# Altium footprint library FootPrintLib_6.PcbLib: 588 footprints (part 32 of 37)
Each footprint in its own frame and in the unit in brackets; x right, y up, seen from the top. Pads: shape width x height; smd on the part's side, far side on the other; paste and mask are expansions set on the pad; w line width, h text height; cw(c..) or ccw(c..) is an arc to the next point about the centre after c.
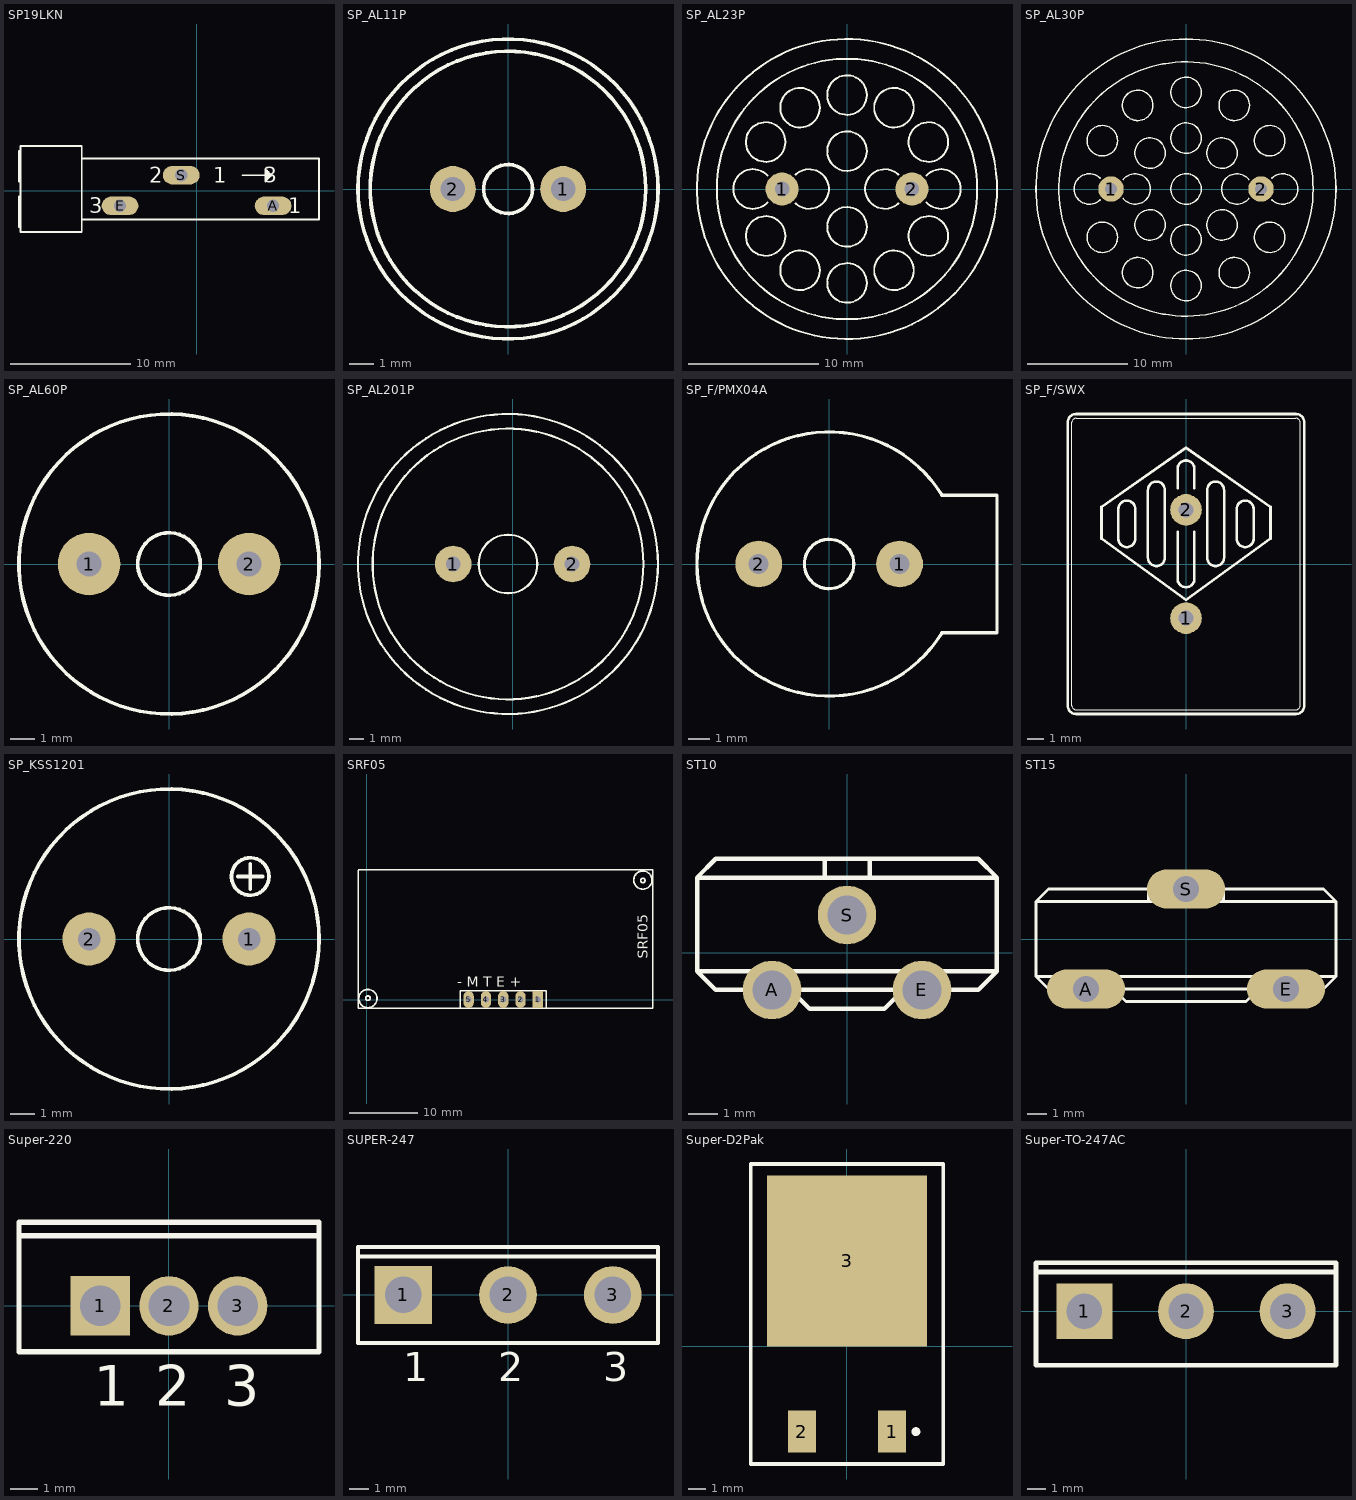
[diagram p31: the footprints below, top view; thin cyan lines are the x and y axes]

## SP19LKN [mil]
pads (3):
  oval 120x60 hole 40: A(250,-50) E(-250,-50) S(-50,50)
Top Overlay:
  lines w6: 150,50 230,50 ; -575,-120 -575,-20 ; -575,-120 -575,-135 -375,-135 -375,-95 ; -575,-120 -580,-120 -580,-20 -575,-20 ; -575,-20 -575,30 ; -575,30 -575,130 ; -575,30 -580,30 -580,130 -575,130 ; -575,130 -575,145 -375,145 -375,105 ; -375,-95 400,-95 400,105 -375,105 ; -375,-95 -375,105 ; 230,35 235,40 ; 230,35 230,50 ; 230,35 225,30 225,70 230,65 ; 230,50 245,50 ; 230,50 230,65 ; 230,65 235,60 ; 235,40 235,60 ; 235,40 240,45 ; 235,60 240,55 ; 240,45 245,50 ; 240,45 240,55 ; 240,55 245,50
  text "1" at 300,-75 h50
  text "3" at -350,-75 h50
  text "2" at -155,25 h50
  text "1" at 55,25 h50
  text "3" at 220,25 h50

## SP_AL11P [mil] "Source: Buerklin"
pads (2):
  round 75 hole 40: 1(90,0) 2(-90,0)
Top Overlay:
  circle w6: c0,0 r40
  circle w6: c0,0 r245
  circle w6: c0,0 r225

## SP_AL23P [mil] "Source: Buerklin"
pads (2):
  round 100 hole 44: 1(-197,0) 2(197,0)
Top Overlay:
  circle w6: c0,0 r395
  circle w6: c0,0 r455
  circle w6: c0,115 r60
  circle w6: c0,-115 r60
  circle w6: c0,-285 r60
  circle w6: c0,285 r60
  circle w6: c-142.5,-246.82 r60
  circle w6: c-246.82,-142.5 r60
  circle w6: c-142.5,246.82 r60
  circle w6: c-246.82,142.5 r60
  circle w6: c142.5,-246.82 r60
  circle w6: c246.82,-142.5 r60
  circle w6: c246.82,142.5 r60
  circle w6: c142.5,246.82 r60
  lines w6: -241,-40.79 cw(c-285,0) -241,40.79 ; -156,-43.81 ccw(c-115,0) -156,43.81 ; 156,-43.81 cw(c115,0) 156,43.81 ; 241,-40.79 ccw(c285,0) 241,40.79

## SP_AL30P [mil] "Source: Buerklin"
pads (2):
  round 100 hole 47: 1(-295,0) 2(295,0)
Top Overlay:
  circle w6: c329.09,190 r60
  circle w6: c141.42,141.42 r60
  circle w6: c190,329.09 r60
  circle w6: c141.42,-141.42 r60
  circle w6: c190,-329.09 r60
  circle w6: c329.09,-190 r60
  circle w6: c-141.42,141.42 r60
  circle w6: c-190,329.09 r60
  circle w6: c-329.09,190 r60
  circle w6: c-141.42,-141.42 r60
  circle w6: c-190,-329.09 r60
  circle w6: c-329.09,-190 r60
  circle w6: c0,-380 r60
  circle w6: c0,380 r60
  circle w6: c0,-200 r60
  circle w6: c0,200 r60
  circle w6: c0,0 r60
  circle w6: c0,0 r500
  circle w6: c0,0 r590
  lines w6: -337.5,-42.35 cw(c-380,0) -337.5,42.35 ; -247.5,-36.66 ccw(c-200,0) -247.5,36.66 ; 247.5,-36.66 cw(c200,0) 247.5,36.66 ; 337.5,-42.35 ccw(c380,0) 337.5,42.35

## SP_AL60P [mil] "Source: Buerklin"
pads (2):
  round 100 hole 40: 1(-128,0) 2(128,0)
Top Overlay:
  circle w6: c0,0 r50
  circle w6: c0,0 r240

## SP_AL201P [mil] "Source: Buerklin"
pads (2):
  round 100 hole 40: 1(-162.5,0) 2(162.5,0)
Top Overlay:
  circle w6: c-12.5,0 r410
  circle w6: c-12.5,0 r370
  circle w6: c-12.5,0 r80

## SP_F/PMX04A [mil] "SPEAKER  Source: Buerklin"
pads (2):
  round 85 hole 36: 1(128,0) 2(-128,0)
Top Overlay:
  circle w6: c0,0 r45
  lines w6: 204.88,-125 cw(c0,0) 204.88,125 305,125 305,-125 204.88,-125

## SP_F/SWX [mm] "SPEAKER  Source: Buerklin"
pads (2):
  round 1.905 hole 0.914: 1(0,-3.25) 2(0,3.25)
Top Overlay:
  lines w0.051: -6.858,-8.509 ccw(c-6.604,-8.509) -6.604,-8.763 6.604,-8.763 ccw(c6.604,-8.509) 6.858,-8.509 6.858,8.509 ccw(c6.604,8.509) 6.604,8.763 -6.604,8.763 ccw(c-6.604,8.509) -6.858,8.509 -6.858,-8.509
  lines w0.152: -0.508,1.95 -0.508,-0.889 ccw(c0,-0.889) 0.508,-0.889 0.508,1.95 ; -0.508,4.553 -0.508,5.715 cw(c0,5.715) 0.508,5.715 0.508,4.553 ; -7.112,-8.509 ccw(c-6.604,-8.509) -6.604,-9.017 6.604,-9.017 ccw(c6.604,-8.509) 7.112,-8.509 7.112,8.509 ccw(c6.604,8.509) 6.604,9.017 -6.604,9.017 ccw(c-6.604,8.509) -7.112,8.509 -7.112,-8.509 ; -5.08,1.524 -5.08,3.429 0,6.985 5.08,3.429 5.08,1.524 0.357,-1.901 0,-2.159 -0.357,-1.901 -5.08,1.524 ; -4.064,1.524 ccw(c-3.556,1.524) -3.048,1.524 -3.048,3.302 ccw(c-3.556,3.302) -4.064,3.302 -4.064,1.524 ; -2.286,0.381 ccw(c-1.778,0.381) -1.27,0.381 -1.27,2.669 -1.27,3.833 -1.27,4.445 ccw(c-1.778,4.445) -2.286,4.445 -2.286,0.381 ; 1.27,0.381 ccw(c1.778,0.381) 2.286,0.381 2.286,4.445 ccw(c1.778,4.445) 1.27,4.445 1.27,3.833 1.27,2.669 1.27,0.381 ; 3.048,1.524 ccw(c3.556,1.524) 4.064,1.524 4.064,3.302 ccw(c3.556,3.302) 3.048,3.302 3.048,1.524

## SP_KSS1201 [mil] "SPEAKER  Source: Schukat"
pads (2):
  round 85 hole 36: 1(128,0) 2(-128,0)
Top Overlay:
  circle w6: c0,0 r50
  circle w6: c0,0 r240
  circle w6: c130,100 r30
  lines w6: 110,100 150,100 ; 130,80 130,120

## SRF05 [mm] "Connector; Header; 5 Position"
pads (5):
  rect 1.5x2.5 hole 0.9: 1(25.146,0)
  oval 1.5x2.5 hole 0.9: 2(22.606,0) 3(20.066,0) 4(17.526,0) 5(14.986,0)
Top Overlay:
  lines w0.2: -1.27,19 -1.27,-1.27 42,-1.27 ; -1.27,19.05 42.037,19.05 42.037,-1.27 ; 13.716,-1.27 26.416,-1.27 26.416,1.27 13.716,1.27 13.716,-1.27
  lines w0.254: 0.508,0.127 cw(c0.191,0.199) 0.514,0.237 ; 1.518,0.017 cw(c0.188,0.146) 1.524,0.127 ; 40.888,17.416 cw(c40.571,17.489) 40.894,17.526 ; 41.904,17.416 cw(c40.574,17.545) 41.91,17.526
  text "SRF05" at 41.275,5.969 h1.52
  text "- M T E +" at 13.335,1.905 h1.52

## ST10 [mil]
pads (3):
  round 78 hole 52: A(-100,-50) E(100,-50) S(0,50)
Top Overlay:
  lines w6: -200,-25 -155,-25 -45,-25 45,-25 155,-25 200,-25 ; -200,-25 -200,100 ; -200,-25 -175,-50 -155,-50 -75,-50 ; -200,100 -30,100 ; -200,100 -175,125 -30,125 ; -75,-50 -45,-50 45,-50 75,-50 ; -75,-50 -50,-75 -45,-75 45,-75 50,-75 75,-50 ; -30,100 30,100 ; -30,100 -30,125 ; -30,125 30,125 ; 30,100 200,100 ; 30,100 30,125 ; 30,125 175,125 200,100 ; 75,-50 155,-50 175,-50 200,-25 ; 200,-25 200,100

## ST15 [mil]
pads (3):
  oval 156x78 hole 52: A(-200,-100) E(200,-100) S(0,100)
Top Overlay:
  lines w6: -55,75 -75,75 ; -55,100 -75,100 ; 55,75 75,75 ; 55,100 75,100 ; -300,-75 -275,-100 -255,-100 -145,-100 ; -300,-75 -300,75 ; -300,-75 -255,-75 -145,-75 145,-75 255,-75 300,-75 ; -300,75 -275,100 -75,100 ; -300,75 -75,75 ; -145,-100 -120,-125 120,-125 145,-100 ; -145,-100 145,-100 ; -75,75 75,75 ; -75,75 -75,100 ; -75,100 75,100 ; 75,75 300,75 ; 75,75 75,100 ; 75,100 275,100 300,75 ; 145,-100 255,-100 275,-100 300,-75 ; 300,-75 300,75

## Super-220 [mm] "TO, Thru-Hole, Vertical, Heatsink Mounted; 3 In-Line Leads; Pitch 2.54 mm"
height 19.4
pads (3):
  rect 2.2x2.2 hole 1.5: 1(-2.54,0)
  round 2.2 hole 1.5: 2(0,0) 3(2.54,0)
Top Overlay:
  lines w0.2: -5.55,2.6 5.55,2.6 ; -5.55,-1.7 -5.55,3.1 5.55,3.1 5.55,-1.7 -5.55,-1.7
  text "1" at -2.79,-3.7 h1.5
  text "2" at -0.5,-3.7 h1.5
  text "3" at 2.04,-3.7 h1.5

## SUPER-247 [mm] "SIP; 3 Leads; Body 20.3 x 15.6 x 5 mm (typ); Pitch 5.45 mm"
height 23.9
pads (3):
  rect 3x3 hole 1.9: 1(-5.45,0)
  round 3 hole 1.9: 2(0,0) 3(5.45,0)
Top Overlay:
  lines w0.2: -7.8,2 7.8,2 ; -7.8,-2.5 7.8,-2.5 7.8,2.5 -7.8,2.5 -7.8,-2.5
  text "1" at -5.45,-4.48 h1.5
  text "2" at -0.508,-4.48 h1.5
  text "3" at 4.942,-4.48 h1.5

## Super-D2Pak [mm] "D2-PAK; 3 Leads (1 Cropped); Body 14.7 (inc. leads) x 10.4 mm (LxW)"
height 4
pads (3):
  rect 1.61x2.37 smd: 1(2.55,-4.837) 2(-2.55,-4.837)
  rect 9.05x9.68 smd: 3(0,4.838)
Top Overlay:
  circle w0.25: c3.905,-4.838 r0.125
  lines w0.2: -5.45,-6.672 5.45,-6.672 5.45,10.328 -5.45,10.328 -5.45,-6.672

## Super-TO-247AC [mm] "SIP; 3 Leads; Body 20.3 x 15.6 x 5 mm (typ); Pitch 5.45 mm"
height 25.1
pads (3):
  rect 3x3 hole 1.9: 1(-5.45,0)
  round 3 hole 1.9: 2(0,0) 3(5.45,0)
Top Overlay:
  lines w0.254: -8.05,2.1 8.05,2.1 ; -8.05,-2.9 -8.05,2.6 8.05,2.6 8.05,-2.9 -8.05,-2.9